# Altium integrated library Res-SMD_V2.IntLib: 2369 symbols (part 3 of 18)
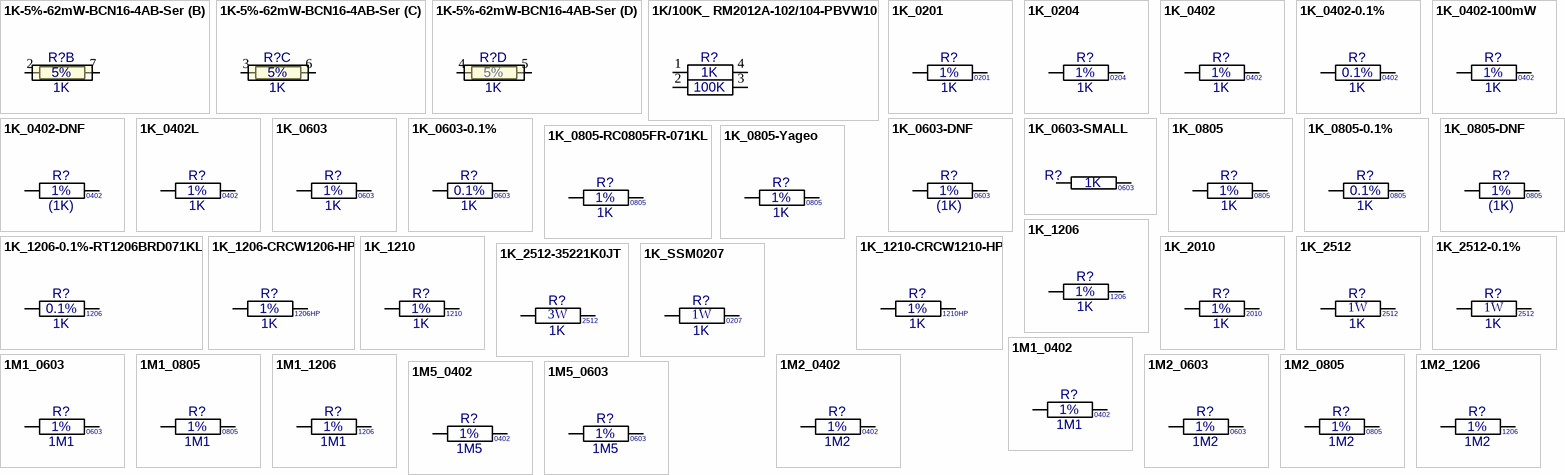
[diagram p61: symbols 1K-5%-62mW-BCN16-4AB-Ser to 1M5_0603]

## 1K_2512-35221K0JT
designator R?, comment value 1K  Watt: 3W  Text1: 2512  (hidden comment: 35221K0JT)
Resistor Chip Thick Film; Manufacturer: TE Connectivity; Tol: 5%; Part Number: 35221K0JT; Package: RESC2512X71N; EDM-PN: *; Text2: *; Reutech PN: *; SAAB PN: *; DCE Part No: *
footprint RESC2512X71N (Chip Resistor, 2512, 2-Leads, Body 6.3x3.2mm, IPC Medium Density)
pins: 1, 2

## 1K_SSM0207
designator R?, comment value 1K  Watt: 1W  Text1: 0207  (hidden comment: SMM02070C1001FBP00)
Resistor Melf Pulse Withstanding Thin Film; Manufacturer: Vishay; Tol: 1%; Part Number: SMM02070C1001FBP00; Package: RES-SMM0207; EDM-PN: *; Text2: *; Reutech PN: *; SAAB PN: *; DCE Part No: *
footprint RES-SMM0207 (Resistor SMM0207 5.8x2.2mm)
pins: 1, 2

## 1M1_0402
designator R?, comment value 1M1  Tol: 1%  Text1: 0402  (hidden comment: 1M1_R0402_1%)
Resistor Chip SMD; Manufacturer: Various; Part Number: 1M1 0402 1%; Watt: 63mW; Package: RESC0402X40N; EDM-PN: *; Text2: *; Reutech PN: *; SAAB PN: *; DCE Part No: *
footprint RESC0402X40N (Chip Resistor, 0402, 2-Leads, Body 1.1x0.5mm, IPC Medium Density)
pins: 1, 2

## 1M1_0603
designator R?, comment value 1M1  Tol: 1%  Text1: 0603  (hidden comment: 1M1_R0603_1%)
Resistor Chip SMD; Manufacturer: Various; Part Number: 1M1 0603 1%; Watt: 100mW; Package: RESC0603X60N; EDM-PN: *; Text2: *; Reutech PN: *; SAAB PN: *; DCE Part No: *
footprint RESC0603X60N (Chip Resistor, 0603, 2-Leads, Body 1.6x0.8mm, IPC Medium Density)
pins: 1, 2

## 1M1_0805
designator R?, comment value 1M1  Tol: 1%  Text1: 0805  (hidden comment: 1M1_R0805_1%)
Resistor Chip SMD; Manufacturer: Various; Part Number: 1M1 0805 1%; Watt: 125mW; Package: RESC0805X65N; EDM-PN: *; Text2: *; Reutech PN: *; SAAB PN: *; DCE Part No: *
footprint RESC0805X65N (Chip Resistor, 0805, 2-Leads, Body 2.0x1.3mm, IPC Medium Density)
pins: 1, 2

## 1M1_1206
designator R?, comment value 1M1  Tol: 1%  Text1: 1206  (hidden comment: 1M1_R1206_1%)
Resistor Chip SMD; Manufacturer: Various; Part Number: 1M1 1206 1%; Watt: 250mW; Package: RESC1206X71N; EDM-PN: *; Text2: *; Reutech PN: *; SAAB PN: *; DCE Part No: *
footprint RESC1206X71N (Chip Resistor, 1206, 2-Leads, Body 3.2x1.6mm, IPC Medium Density)
pins: 1, 2

## 1M2_0402
designator R?, comment value 1M2  Tol: 1%  Text1: 0402  (hidden comment: 1M2_R0402_1%)
Resistor Chip SMD; Manufacturer: Various; Part Number: 1M2 0402 1%; Watt: 63mW; Package: RESC0402X40N; EDM-PN: *; Text2: *; Reutech PN: *; SAAB PN: *; DCE Part No: *
footprint RESC0402X40N (Chip Resistor, 0402, 2-Leads, Body 1.1x0.5mm, IPC Medium Density)
pins: 1, 2

## 1M2_0603
designator R?, comment value 1M2  Tol: 1%  Text1: 0603  (hidden comment: 1M2_R0603_1%)
Resistor Chip SMD; Manufacturer: Various; Part Number: 1M2 0603 1%; Watt: 100mW; Package: RESC0603X60N; EDM-PN: *; Text2: *; Reutech PN: *; SAAB PN: *; DCE Part No: *
footprint RESC0603X60N (Chip Resistor, 0603, 2-Leads, Body 1.6x0.8mm, IPC Medium Density)
pins: 1, 2

## 1M2_0805
designator R?, comment value 1M2  Tol: 1%  Text1: 0805  (hidden comment: 1M2_R0805_1%)
Resistor Chip SMD; Manufacturer: Various; Part Number: 1M2 0805 1%; Watt: 125mW; Package: RESC0805X65N; EDM-PN: *; Text2: *; Reutech PN: *; SAAB PN: *; DCE Part No: *
footprint RESC0805X65N (Chip Resistor, 0805, 2-Leads, Body 2.0x1.3mm, IPC Medium Density)
pins: 1, 2

## 1M2_1206
designator R?, comment value 1M2  Tol: 1%  Text1: 1206  (hidden comment: 1M2_R1206_1%)
Resistor Chip SMD; Manufacturer: Various; Part Number: 1M2 1206 1%; Watt: 250mW; Package: RESC1206X71N; EDM-PN: *; Text2: *; Reutech PN: *; SAAB PN: *; DCE Part No: *
footprint RESC1206X71N (Chip Resistor, 1206, 2-Leads, Body 3.2x1.6mm, IPC Medium Density)
pins: 1, 2

## 1M5_0402
designator R?, comment value 1M5  Tol: 1%  Text1: 0402  (hidden comment: 1M5_R0402_1%)
Resistor Chip SMD; Manufacturer: Various; Part Number: 1M5 0402 1%; Watt: 63mW; Package: RESC0402X40N; EDM-PN: *; Text2: *; Reutech PN: *; SAAB PN: *; DCE Part No: *
footprint RESC0402X40N (Chip Resistor, 0402, 2-Leads, Body 1.1x0.5mm, IPC Medium Density)
pins: 1, 2

## 1M5_0603
designator R?, comment value 1M5  Tol: 1%  Text1: 0603  (hidden comment: 1M5_R0603_1%)
Resistor Chip SMD; Manufacturer: Various; Part Number: 1M5 0603 1%; Watt: 100mW; Package: RESC0603X60N; EDM-PN: *; Text2: *; Reutech PN: *; SAAB PN: *; DCE Part No: *
footprint RESC0603X60N (Chip Resistor, 0603, 2-Leads, Body 1.6x0.8mm, IPC Medium Density)
pins: 1, 2

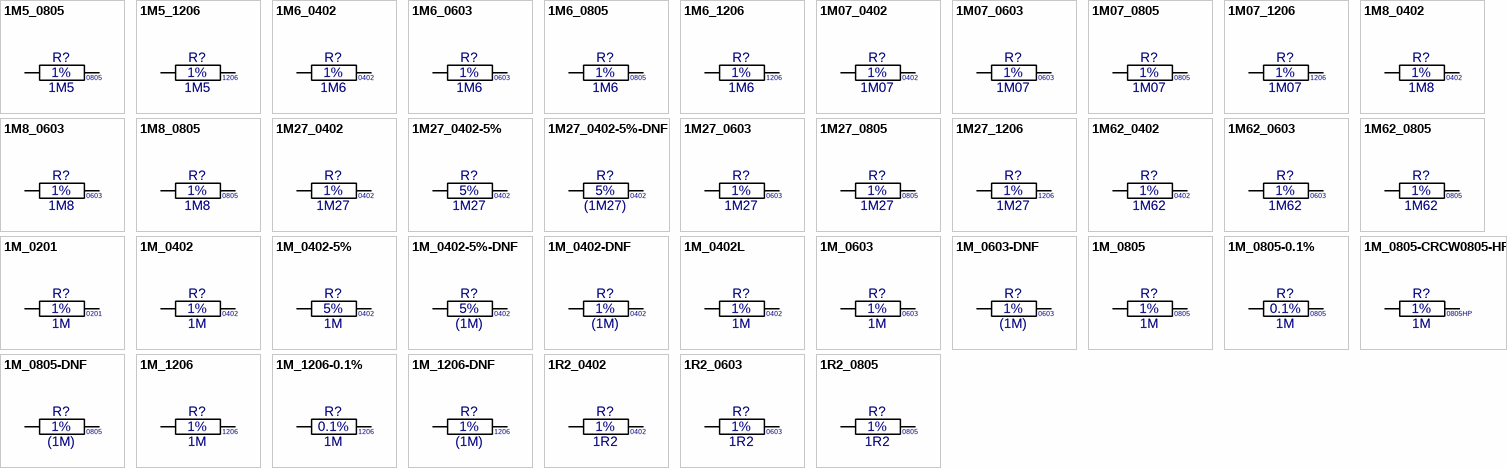
[diagram p7: symbols 1M5_0805 to 1R2_0805]

## 1M5_0805
designator R?, comment value 1M5  Tol: 1%  Text1: 0805  (hidden comment: 1M5_R0805_1%)
Resistor Chip SMD; Manufacturer: Various; Part Number: 1M5 0805 1%; Watt: 125mW; Package: RESC0805X65N; EDM-PN: *; Text2: *; Reutech PN: *; SAAB PN: *; DCE Part No: *
footprint RESC0805X65N (Chip Resistor, 0805, 2-Leads, Body 2.0x1.3mm, IPC Medium Density)
pins: 1, 2

## 1M5_1206
designator R?, comment value 1M5  Tol: 1%  Text1: 1206  (hidden comment: 1M5_R1206_1%)
Resistor Chip SMD; Manufacturer: Various; Part Number: 1M5 1206 1%; Watt: 250mW; Package: RESC1206X71N; EDM-PN: *; Text2: *; Reutech PN: *; SAAB PN: *; DCE Part No: *
footprint RESC1206X71N (Chip Resistor, 1206, 2-Leads, Body 3.2x1.6mm, IPC Medium Density)
pins: 1, 2

## 1M6_0402
designator R?, comment value 1M6  Tol: 1%  Text1: 0402  (hidden comment: 1M6_R0402_1%)
Resistor Chip SMD; Manufacturer: Various; Part Number: 1M6 0402 1%; Watt: 63mW; Package: RESC0402X40N; EDM-PN: *; Text2: *; Reutech PN: *; SAAB PN: *; DCE Part No: *
footprint RESC0402X40N (Chip Resistor, 0402, 2-Leads, Body 1.1x0.5mm, IPC Medium Density)
pins: 1, 2

## 1M6_0603
designator R?, comment value 1M6  Tol: 1%  Text1: 0603  (hidden comment: 1M6_R0603_1%)
Resistor Chip SMD; Manufacturer: Various; Part Number: 1M6 0603 1%; Watt: 100mW; Package: RESC0603X60N; EDM-PN: *; Text2: *; Reutech PN: *; SAAB PN: *; DCE Part No: *
footprint RESC0603X60N (Chip Resistor, 0603, 2-Leads, Body 1.6x0.8mm, IPC Medium Density)
pins: 1, 2

## 1M6_0805
designator R?, comment value 1M6  Tol: 1%  Text1: 0805  (hidden comment: 1M6_R0805_1%)
Resistor Chip SMD; Manufacturer: Various; Part Number: 1M6 0805 1%; Watt: 125mW; Package: RESC0805X65N; EDM-PN: *; Text2: *; Reutech PN: *; SAAB PN: *; DCE Part No: *
footprint RESC0805X65N (Chip Resistor, 0805, 2-Leads, Body 2.0x1.3mm, IPC Medium Density)
pins: 1, 2

## 1M6_1206
designator R?, comment value 1M6  Tol: 1%  Text1: 1206  (hidden comment: 1M6_R1206_1%)
Resistor Chip SMD; Manufacturer: Various; Part Number: 1M6 1206 1%; Watt: 250mW; Package: RESC1206X71N; EDM-PN: *; Text2: *; Reutech PN: *; SAAB PN: *; DCE Part No: *
footprint RESC1206X71N (Chip Resistor, 1206, 2-Leads, Body 3.2x1.6mm, IPC Medium Density)
pins: 1, 2

## 1M07_0402
designator R?, comment value 1M07  Tol: 1%  Text1: 0402  (hidden comment: 1M07_R0402_1%)
Resistor Chip SMD; Manufacturer: Various; Part Number: 1M07 0402 1%; Watt: 63mW; Package: RESC0402X40N; EDM-PN: *; Text2: *; Reutech PN: *; SAAB PN: *; DCE Part No: *
footprint RESC0402X40N (Chip Resistor, 0402, 2-Leads, Body 1.1x0.5mm, IPC Medium Density)
pins: 1, 2

## 1M07_0603
designator R?, comment value 1M07  Tol: 1%  Text1: 0603  (hidden comment: 1M07_R0603_1%)
Resistor Chip SMD; Manufacturer: Various; Part Number: 1M07 0603 1%; Watt: 100mW; Package: RESC0603X60N; EDM-PN: *; Text2: *; Reutech PN: *; SAAB PN: *; DCE Part No: *
footprint RESC0603X60N (Chip Resistor, 0603, 2-Leads, Body 1.6x0.8mm, IPC Medium Density)
pins: 1, 2

## 1M07_0805
designator R?, comment value 1M07  Tol: 1%  Text1: 0805  (hidden comment: 1M07_R0805_1%)
Resistor Chip SMD; Manufacturer: Various; Part Number: 1M07 0805 1%; Watt: 125mW; Package: RESC0805X65N; EDM-PN: *; Text2: *; Reutech PN: *; SAAB PN: *; DCE Part No: *
footprint RESC0805X65N (Chip Resistor, 0805, 2-Leads, Body 2.0x1.3mm, IPC Medium Density)
pins: 1, 2

## 1M07_1206
designator R?, comment value 1M07  Tol: 1%  Text1: 1206  (hidden comment: 1M07_R1206_1%)
Resistor Chip SMD; Manufacturer: Various; Part Number: 1M07 1206 1%; Watt: 250mW; Package: RESC1206X71N; EDM-PN: *; Text2: *; Reutech PN: *; SAAB PN: *; DCE Part No: *
footprint RESC1206X71N (Chip Resistor, 1206, 2-Leads, Body 3.2x1.6mm, IPC Medium Density)
pins: 1, 2

## 1M8_0402
designator R?, comment value 1M8  Tol: 1%  Text1: 0402  (hidden comment: 1M8_R0402_1%)
Resistor Chip SMD; Manufacturer: Various; Part Number: 1M8 0402 1%; Watt: 63mW; Package: RESC0402X40N; EDM-PN: *; Text2: *; Reutech PN: *; SAAB PN: *; DCE Part No: *
footprint RESC0402X40N (Chip Resistor, 0402, 2-Leads, Body 1.1x0.5mm, IPC Medium Density)
pins: 1, 2

## 1M8_0603
designator R?, comment value 1M8  Tol: 1%  Text1: 0603  (hidden comment: 1M8_R0603_1%)
Resistor Chip SMD; Manufacturer: Various; Part Number: 1M8 0603 1%; Watt: 100mW; EDM-PN: RES873; Package: RESC0603X60N; Text2: *; Reutech PN: *; SAAB PN: *; DCE Part No: *
footprint RESC0603X60N (Chip Resistor, 0603, 2-Leads, Body 1.6x0.8mm, IPC Medium Density)
pins: 1, 2

## 1M8_0805
designator R?, comment value 1M8  Tol: 1%  Text1: 0805  (hidden comment: 1M8_R0805_1%)
Resistor Chip SMD; Manufacturer: Various; Part Number: 1M8 0805 1%; Watt: 125mW; Package: RESC0805X65N; EDM-PN: *; Text2: *; Reutech PN: *; SAAB PN: *; DCE Part No: *
footprint RESC0805X65N (Chip Resistor, 0805, 2-Leads, Body 2.0x1.3mm, IPC Medium Density)
pins: 1, 2

## 1M27_0402
designator R?, comment value 1M27  Tol: 1%  Text1: 0402  (hidden comment: 1M27_R0402_1%)
Resistor Chip SMD; Manufacturer: Various; Part Number: 1M27 0402 1%; Watt: 63mW; Package: RESC0402X40N; EDM-PN: *; Text2: *; Reutech PN: *; SAAB PN: *; DCE Part No: *
footprint RESC0402X40N (Chip Resistor, 0402, 2-Leads, Body 1.1x0.5mm, IPC Medium Density)
pins: 1, 2

## 1M27_0402-5%
designator R?, comment value 1M27  Tol: 5%  Text1: 0402  (hidden comment: 1M27_R0402_5%)
Resistor Chip SMD; Manufacturer: Various; Part Number: 1M27 0402 5%; Watt: 63mW; Package: RESC0402X40N; EDM-PN: *; Text2: *; Reutech PN: *; SAAB PN: *; DCE Part No: *
footprint RESC0402X40N (Chip Resistor, 0402, 2-Leads, Body 1.1x0.5mm, IPC Medium Density)
pins: 1, 2

## 1M27_0402-5%-DNF
designator R?, comment value (1M27)  Tol: 5%  Text1: 0402  (hidden comment: 1M27_R0402_5%)
Resistor Chip SMD - Do not Fit; Manufacturer: Various; Part Number: DNF - 1M27 0402 5%; Watt: 63mW; Package: RESC0402X40N; EDM-PN: *; Text2: *; Reutech PN: *; SAAB PN: *; DCE Part No: *
footprint RESC0402X40N (Chip Resistor, 0402, 2-Leads, Body 1.1x0.5mm, IPC Medium Density)
pins: 1, 2

## 1M27_0603
designator R?, comment value 1M27  Tol: 1%  Text1: 0603  (hidden comment: 1M27_R0603_1%)
Resistor Chip SMD; Manufacturer: Various; Part Number: 1M27 0603 1%; Watt: 100mW; Package: RESC0603X60N; EDM-PN: *; Text2: *; Reutech PN: *; SAAB PN: *; DCE Part No: *
footprint RESC0603X60N (Chip Resistor, 0603, 2-Leads, Body 1.6x0.8mm, IPC Medium Density)
pins: 1, 2

## 1M27_0805
designator R?, comment value 1M27  Tol: 1%  Text1: 0805  (hidden comment: 1M27_R0805_1%)
Resistor Chip SMD; Manufacturer: Various; Part Number: 1M27 0805 1%; Watt: 125mW; Package: RESC0805X65N; EDM-PN: *; Text2: *; Reutech PN: *; SAAB PN: *; DCE Part No: *
footprint RESC0805X65N (Chip Resistor, 0805, 2-Leads, Body 2.0x1.3mm, IPC Medium Density)
pins: 1, 2

## 1M27_1206
designator R?, comment value 1M27  Tol: 1%  Text1: 1206  (hidden comment: 1M27_R1206_1%)
Resistor Chip SMD; Manufacturer: Various; Part Number: 1M27 1206 1%; Watt: 250mW; Package: RESC1206X71N; EDM-PN: *; Text2: *; Reutech PN: *; SAAB PN: *; DCE Part No: *
footprint RESC1206X71N (Chip Resistor, 1206, 2-Leads, Body 3.2x1.6mm, IPC Medium Density)
pins: 1, 2

## 1M62_0402
designator R?, comment value 1M62  Tol: 1%  Text1: 0402  (hidden comment: 1M62_R0402_1%)
Resistor Chip SMD; Manufacturer: Various; Part Number: 1M62 0402 1%; Watt: 63mW; Package: RESC0402X40N; EDM-PN: *; Text2: *; Reutech PN: *; SAAB PN: *; DCE Part No: *
footprint RESC0402X40N (Chip Resistor, 0402, 2-Leads, Body 1.1x0.5mm, IPC Medium Density)
pins: 1, 2

## 1M62_0603
designator R?, comment value 1M62  Tol: 1%  Text1: 0603  (hidden comment: 1M62_R0603_1%)
Resistor Chip SMD; Manufacturer: Various; Part Number: 1M62 0603 1%; Watt: 100mW; EDM-PN: RES1522; Package: RESC0603X60N; Text2: *; Reutech PN: *; SAAB PN: *; DCE Part No: *
footprint RESC0603X60N (Chip Resistor, 0603, 2-Leads, Body 1.6x0.8mm, IPC Medium Density)
pins: 1, 2

## 1M62_0805
designator R?, comment value 1M62  Tol: 1%  Text1: 0805  (hidden comment: 1M62_R0805_1%)
Resistor Chip SMD; Manufacturer: Various; Part Number: 1M62 0805 1%; Watt: 125mW; Package: RESC0805X65N; EDM-PN: *; Text2: *; Reutech PN: *; SAAB PN: *; DCE Part No: *
footprint RESC0805X65N (Chip Resistor, 0805, 2-Leads, Body 2.0x1.3mm, IPC Medium Density)
pins: 1, 2

## 1M_0201
designator R?, comment value 1M  Tol: 1%  Text1: 0201  (hidden comment: 1M_R0201_1%)
Resistor Chip SMD; Manufacturer: Various; Part Number: 1M 0201 1%; Watt: 31mW; Package: RESC0201X33N; EDM-PN: *; Text2: *; Reutech PN: *; SAAB PN: *; DCE Part No: *
footprint RESC0201X33N (Chip Resistor, 0201, 2-Leads, Body 0.6x0.3mm, IPC Medium Density)
pins: 1, 2

## 1M_0402
designator R?, comment value 1M  Tol: 1%  Text1: 0402  (hidden comment: 1M_R0402_1%)
Resistor Chip SMD; Manufacturer: Various; Part Number: 1M 0402 1%; Watt: 63mW; EDM-PN: RES580; Package: RESC0402X40N; Text2: *; Reutech PN: *; SAAB PN: *; DCE Part No: *
footprint RESC0402X40N (Chip Resistor, 0402, 2-Leads, Body 1.1x0.5mm, IPC Medium Density)
pins: 1, 2

## 1M_0402-5%
designator R?, comment value 1M  Tol: 5%  Text1: 0402  (hidden comment: 1M_R0402_5%)
Resistor Chip SMD; Manufacturer: Various; Part Number: 1M 0402 5%; Watt: 63mW; Package: RESC0402X40N; EDM-PN: *; Text2: *; Reutech PN: *; SAAB PN: *; DCE Part No: *
footprint RESC0402X40N (Chip Resistor, 0402, 2-Leads, Body 1.1x0.5mm, IPC Medium Density)
pins: 1, 2

## 1M_0402-5%-DNF
designator R?, comment value (1M)  Tol: 5%  Text1: 0402  (hidden comment: 1M_R0402_5%)
Resistor Chip SMD - Do not Fit; Manufacturer: Various; Part Number: DNF - 1M 0402 5%; Watt: 63mW; Package: RESC0402X40N; EDM-PN: *; Text2: *; Reutech PN: *; SAAB PN: *; DCE Part No: *
footprint RESC0402X40N (Chip Resistor, 0402, 2-Leads, Body 1.1x0.5mm, IPC Medium Density)
pins: 1, 2

## 1M_0402-DNF
designator R?, comment value (1M)  Tol: 1%  Text1: 0402  (hidden comment: 1M_R0402_1%-DNF)
Resistor Chip SMD - Do not Fit; Manufacturer: Various; Part Number: DNF - 1M 0402 1%; Watt: 63mW; Package: RESC0402X40N; EDM-PN: *; Text2: *; Reutech PN: *; SAAB PN: *; DCE Part No: *
footprint RESC0402X40N (Chip Resistor, 0402, 2-Leads, Body 1.1x0.5mm, IPC Medium Density)
pins: 1, 2

## 1M_0402L
designator R?, comment value 1M  Tol: 1%  Text1: 0402  (hidden comment: 1M_R0402_1%)
Resistor Chip SMD; Manufacturer: Various; Part Number: 1M 0402 1%; Watt: 63mW; EDM-PN: RES580; Package: RESC0402X40L; Text2: *; Reutech PN: *; SAAB PN: *; DCE Part No: *
footprint RESC0402X40L (Chip Resistor, 0402, 2-Leads, Body 1.1x0.5mm, IPC High Density)
pins: 1, 2

## 1M_0603
designator R?, comment value 1M  Tol: 1%  Text1: 0603  (hidden comment: 1M_R0603_1%)
Resistor Chip SMD; Manufacturer: Various; Part Number: 1M 0603 1%; Watt: 100mW; EDM-PN: RES180; Package: RESC0603X60N; Text2: *; Reutech PN: 5905-93-1004; SAAB PN: *; DCE Part No: *
footprint RESC0603X60N (Chip Resistor, 0603, 2-Leads, Body 1.6x0.8mm, IPC Medium Density)
pins: 1, 2

## 1M_0603-DNF
designator R?, comment value (1M)  Tol: 1%  Text1: 0603  (hidden comment: 1M_R0603_1%)
Resistor Chip SMD - Do not Fit; Manufacturer: Various; Part Number: DNF - 1M 0603 1%; Watt: 100mW; EDM-PN: RES180; Package: RESC0603X60N; Text2: *; Reutech PN: 5905-93-1004; SAAB PN: *; DCE Part No: *
footprint RESC0603X60N (Chip Resistor, 0603, 2-Leads, Body 1.6x0.8mm, IPC Medium Density)
pins: 1, 2

## 1M_0805
designator R?, comment value 1M  Tol: 1%  Text1: 0805  (hidden comment: 1M_R0805_1%)
Resistor Chip SMD; Manufacturer: Various; Part Number: 1M 0805 1%; Watt: 125mW; EDM-PN: RES421; Package: RESC0805X65N; Text2: *; Reutech PN: *; SAAB PN: *; DCE Part No: *
footprint RESC0805X65N (Chip Resistor, 0805, 2-Leads, Body 2.0x1.3mm, IPC Medium Density)
pins: 1, 2

## 1M_0805-0.1%
designator R?, comment value 1M  Tol: 0.1%  Text1: 0805  (hidden comment: 1M_R0805_0.1%)
Resistor Chip SMD; Manufacturer: Various; Part Number: 1M 0805 0.1%; Watt: 125mW; Package: RESC0805X65N; EDM-PN: *; Text2: *; Reutech PN: *; SAAB PN: *; DCE Part No: *
footprint RESC0805X65N (Chip Resistor, 0805, 2-Leads, Body 2.0x1.3mm, IPC Medium Density)
pins: 1, 2

## 1M_0805-CRCW0805-HP
designator R?, comment value 1M  Tol: 1%  Text1: 0805HP  (hidden comment: CRCW08051M00FKEAHP)
Resistor Pulse Withstanding Thick Film; Manufacturer: Vishay; Watt: 500mW; Part Number: CRCW08051M00FKEAHP; Package: CRCW0805-HP; EDM-PN: *; Text2: *; Reutech PN: *; SAAB PN: *; DCE Part No: *
footprint CRCW0805-HP (CRCW0805 HP 2.0x1.3mm, IPC Medium Density)
pins: 1, 2

## 1M_0805-DNF
designator R?, comment value (1M)  Tol: 1%  Text1: 0805  (hidden comment: 1M_R0805_1%)
Resistor Chip SMD - Do not Fit; Manufacturer: Various; Part Number: DNF - 1M 0805 1%; Watt: 125mW; EDM-PN: RES421; Package: RESC0805X65N; Text2: *; Reutech PN: *; SAAB PN: *; DCE Part No: *
footprint RESC0805X65N (Chip Resistor, 0805, 2-Leads, Body 2.0x1.3mm, IPC Medium Density)
pins: 1, 2

## 1M_1206
designator R?, comment value 1M  Tol: 1%  Text1: 1206  (hidden comment: 1M_R1206_1%)
Resistor Chip SMD; Manufacturer: Various; Part Number: 1M 1206 1%; Watt: 250mW; Package: RESC1206X71N; EDM-PN: *; Text2: *; Reutech PN: 5905-97-1004; SAAB PN: *; DCE Part No: *
footprint RESC1206X71N (Chip Resistor, 1206, 2-Leads, Body 3.2x1.6mm, IPC Medium Density)
pins: 1, 2

## 1M_1206-0.1%
designator R?, comment value 1M  Tol: 0.1%  Text1: 1206  (hidden comment: 1M_R1206_0.1%)
Resistor Chip SMD; Manufacturer: Various; Part Number: 1M 1206 0.1%; Watt: 250mW; Package: RESC1206X71N; EDM-PN: *; Text2: *; Reutech PN: *; SAAB PN: *; DCE Part No: *
footprint RESC1206X71N (Chip Resistor, 1206, 2-Leads, Body 3.2x1.6mm, IPC Medium Density)
pins: 1, 2

## 1M_1206-DNF
designator R?, comment value (1M)  Tol: 1%  Text1: 1206  (hidden comment: 1M_R1206_1%-DNF)
Resistor Chip SMD - Do not Fit; Manufacturer: Various; Part Number: DNF - 1M 1206 1%; Watt: 250mW; Package: RESC1206X71N; EDM-PN: *; Text2: *; Reutech PN: 5905-97-1004; SAAB PN: *; DCE Part No: *
footprint RESC1206X71N (Chip Resistor, 1206, 2-Leads, Body 3.2x1.6mm, IPC Medium Density)
pins: 1, 2

## 1R2_0402
designator R?, comment value 1R2  Tol: 1%  Text1: 0402  (hidden comment: 1R2_R0402_1%)
Resistor Chip SMD; Manufacturer: Various; Part Number: 1R2 0402 1%; Watt: 63mW; Package: RESC0402X40N; EDM-PN: *; Text2: *; Reutech PN: *; SAAB PN: *; DCE Part No: *
footprint RESC0402X40N (Chip Resistor, 0402, 2-Leads, Body 1.1x0.5mm, IPC Medium Density)
pins: 1, 2

## 1R2_0603
designator R?, comment value 1R2  Tol: 1%  Text1: 0603  (hidden comment: 1R2_R0603_1%)
Resistor Chip SMD; Manufacturer: Various; Part Number: 1R2 0603 1%; Watt: 100mW; Package: RESC0603X60N; EDM-PN: *; Text2: *; Reutech PN: *; SAAB PN: *; DCE Part No: *
footprint RESC0603X60N (Chip Resistor, 0603, 2-Leads, Body 1.6x0.8mm, IPC Medium Density)
pins: 1, 2

## 1R2_0805
designator R?, comment value 1R2  Tol: 1%  Text1: 0805  (hidden comment: 1R2_R0805_1%)
Resistor Chip SMD; Manufacturer: Various; Part Number: 1R2 0805 1%; Watt: 125mW; Package: RESC0805X65N; EDM-PN: *; Text2: *; Reutech PN: *; SAAB PN: *; DCE Part No: *
footprint RESC0805X65N (Chip Resistor, 0805, 2-Leads, Body 2.0x1.3mm, IPC Medium Density)
pins: 1, 2

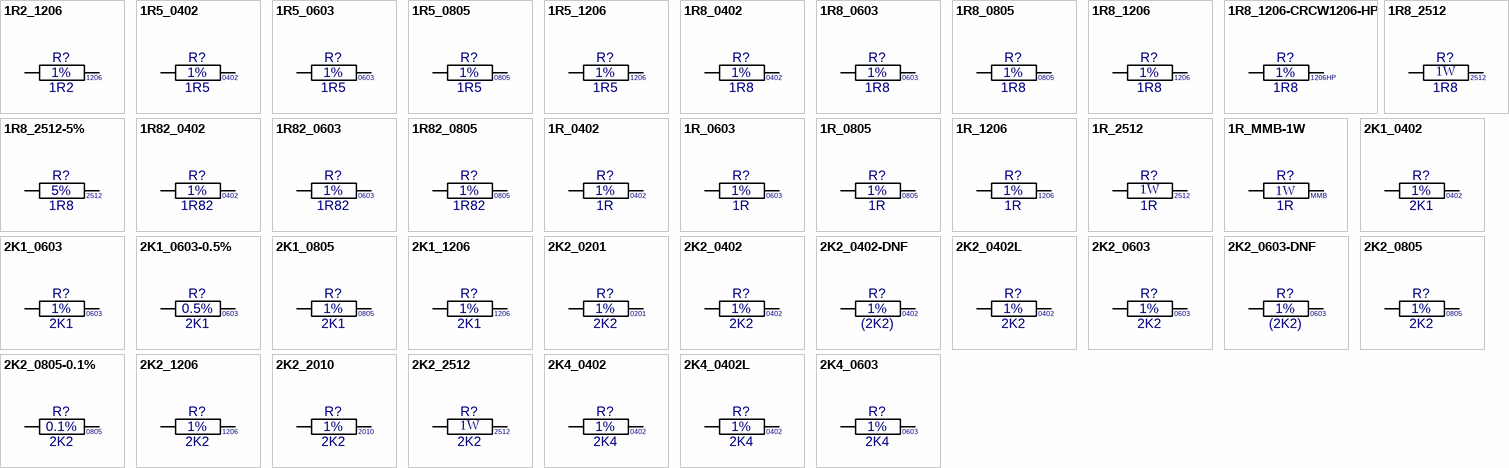
[diagram p8: symbols 1R2_1206 to 2K4_0603]

## 1R2_1206
designator R?, comment value 1R2  Tol: 1%  Text1: 1206  (hidden comment: 1R2_R1206_1%)
Resistor Chip SMD; Manufacturer: Various; Part Number: 1R2 1206 1%; Watt: 250mW; Package: RESC1206X71N; EDM-PN: *; Text2: *; Reutech PN: *; SAAB PN: *; DCE Part No: *
footprint RESC1206X71N (Chip Resistor, 1206, 2-Leads, Body 3.2x1.6mm, IPC Medium Density)
pins: 1, 2

## 1R5_0402
designator R?, comment value 1R5  Tol: 1%  Text1: 0402  (hidden comment: 1R5_R0402_1%)
Resistor Chip SMD; Manufacturer: Various; Part Number: 1R5 0402 1%; Watt: 63mW; Package: RESC0402X40N; EDM-PN: *; Text2: *; Reutech PN: *; SAAB PN: *; DCE Part No: *
footprint RESC0402X40N (Chip Resistor, 0402, 2-Leads, Body 1.1x0.5mm, IPC Medium Density)
pins: 1, 2

## 1R5_0603
designator R?, comment value 1R5  Tol: 1%  Text1: 0603  (hidden comment: 1R5_R0603_1%)
Resistor Chip SMD; Manufacturer: Various; Part Number: 1R5 0603 1%; Watt: 100mW; EDM-PN: RES1287; Package: RESC0603X60N; Text2: *; Reutech PN: *; SAAB PN: *; DCE Part No: *
footprint RESC0603X60N (Chip Resistor, 0603, 2-Leads, Body 1.6x0.8mm, IPC Medium Density)
pins: 1, 2

## 1R5_0805
designator R?, comment value 1R5  Tol: 1%  Text1: 0805  (hidden comment: 1R5_R0805_1%)
Resistor Chip SMD; Manufacturer: Various; Part Number: 1R5 0805 1%; Watt: 125mW; Package: RESC0805X65N; EDM-PN: *; Text2: *; Reutech PN: *; SAAB PN: *; DCE Part No: *
footprint RESC0805X65N (Chip Resistor, 0805, 2-Leads, Body 2.0x1.3mm, IPC Medium Density)
pins: 1, 2

## 1R5_1206
designator R?, comment value 1R5  Tol: 1%  Text1: 1206  (hidden comment: 1R5_R1206_1%)
Resistor Chip SMD; Manufacturer: Various; Part Number: 1R5 1206 1%; Watt: 250mW; Package: RESC1206X71N; EDM-PN: *; Text2: *; Reutech PN: *; SAAB PN: *; DCE Part No: *
footprint RESC1206X71N (Chip Resistor, 1206, 2-Leads, Body 3.2x1.6mm, IPC Medium Density)
pins: 1, 2

## 1R8_0402
designator R?, comment value 1R8  Tol: 1%  Text1: 0402  (hidden comment: 1R8_R0402_1%)
Resistor Chip SMD; Manufacturer: Various; Part Number: 1R8 0402 1%; Watt: 63mW; Package: RESC0402X40N; EDM-PN: *; Text2: *; Reutech PN: *; SAAB PN: *; DCE Part No: *
footprint RESC0402X40N (Chip Resistor, 0402, 2-Leads, Body 1.1x0.5mm, IPC Medium Density)
pins: 1, 2

## 1R8_0603
designator R?, comment value 1R8  Tol: 1%  Text1: 0603  (hidden comment: 1R8_R0603_1%)
Resistor Chip SMD; Manufacturer: Various; Part Number: 1R8 0603 1%; Watt: 100mW; Package: RESC0603X60N; EDM-PN: *; Text2: *; Reutech PN: *; SAAB PN: *; DCE Part No: *
footprint RESC0603X60N (Chip Resistor, 0603, 2-Leads, Body 1.6x0.8mm, IPC Medium Density)
pins: 1, 2

## 1R8_0805
designator R?, comment value 1R8  Tol: 1%  Text1: 0805  (hidden comment: 1R8_R0805_1%)
Resistor Chip SMD; Manufacturer: Various; Part Number: 1R8 0805 1%; Watt: 125mW; Package: RESC0805X65N; EDM-PN: *; Text2: *; Reutech PN: *; SAAB PN: *; DCE Part No: *
footprint RESC0805X65N (Chip Resistor, 0805, 2-Leads, Body 2.0x1.3mm, IPC Medium Density)
pins: 1, 2

## 1R8_1206
designator R?, comment value 1R8  Tol: 1%  Text1: 1206  (hidden comment: 1R8_R1206_1%)
Resistor Chip SMD; Manufacturer: Various; Part Number: 1R8 1206 1%; Watt: 250mW; Package: RESC1206X71N; EDM-PN: *; Text2: *; Reutech PN: *; SAAB PN: *; DCE Part No: *
footprint RESC1206X71N (Chip Resistor, 1206, 2-Leads, Body 3.2x1.6mm, IPC Medium Density)
pins: 1, 2

## 1R8_1206-CRCW1206-HP
designator R?, comment value 1R8  Tol: 1%  Text1: 1206HP  (hidden comment: 1R8_R1206_1%-CRCW1206-HP)
Resistor Chip Pulse Proof High Power Thick Film; Manufacturer: Vishay; Part Number: CRCW12061R80FKEAHP; Watt: 500mW; Package: CRCW1206-HP; EDM-PN: *; Text2: *; Reutech PN: *; SAAB PN: *; DCE Part No: *
footprint CRCW1206-HP (CCRCW1206-HP 3.2x1.6mm, IPC Medium Density)
pins: 1, 2

## 1R8_2512
designator R?, comment value 1R8  Watt: 1W  Text1: 2512  (hidden comment: 1R8_R2512)
Resistor Chip SMD; Manufacturer: Various; Part Number: 1R8 2512 1%; Tol: 1%; Package: RESC2512X71N; EDM-PN: *; Text2: *; Reutech PN: *; SAAB PN: *; DCE Part No: *
footprint RESC2512X71N (Chip Resistor, 2512, 2-Leads, Body 6.3x3.2mm, IPC Medium Density)
pins: 1, 2

## 1R8_2512-5%
designator R?, comment value 1R8  Tol: 5%  Text1: 2512  (hidden comment: 1R8_R2512_5%)
Resistor Chip SMD; Manufacturer: Various; Part Number: 1R8 2512 5%; Watt: 1W; Package: RESC2512X71N; EDM-PN: *; Text2: *; Reutech PN: *; SAAB PN: *; DCE Part No: *
footprint RESC2512X71N (Chip Resistor, 2512, 2-Leads, Body 6.3x3.2mm, IPC Medium Density)
pins: 1, 2

## 1R82_0402
designator R?, comment value 1R82  Tol: 1%  Text1: 0402  (hidden comment: 1R82_R0402_1%)
Resistor Chip SMD; Manufacturer: Various; Part Number: 1R82 0402 1%; Watt: 63mW; Package: RESC0402X40N; EDM-PN: *; Text2: *; Reutech PN: *; SAAB PN: *; DCE Part No: *
footprint RESC0402X40N (Chip Resistor, 0402, 2-Leads, Body 1.1x0.5mm, IPC Medium Density)
pins: 1, 2

## 1R82_0603
designator R?, comment value 1R82  Tol: 1%  Text1: 0603  (hidden comment: 1R82_R0603_1%)
Resistor Chip SMD; Manufacturer: Various; Part Number: 1R82 0603 1%; Watt: 100mW; Package: RESC0603X60N; EDM-PN: *; Text2: *; Reutech PN: *; SAAB PN: *; DCE Part No: *
footprint RESC0603X60N (Chip Resistor, 0603, 2-Leads, Body 1.6x0.8mm, IPC Medium Density)
pins: 1, 2

## 1R82_0805
designator R?, comment value 1R82  Tol: 1%  Text1: 0805  (hidden comment: 1R82_R0805_1%)
Resistor Chip SMD; Manufacturer: Various; Part Number: 1R82 0805 1%; Watt: 125mW; Package: RESC0805X65N; EDM-PN: *; Text2: *; Reutech PN: *; SAAB PN: *; DCE Part No: *
footprint RESC0805X65N (Chip Resistor, 0805, 2-Leads, Body 2.0x1.3mm, IPC Medium Density)
pins: 1, 2

## 1R_0402
designator R?, comment value 1R  Tol: 1%  Text1: 0402  (hidden comment: 1R_R0402_1%)
Resistor Chip SMD; Manufacturer: Various; Part Number: 1R 0402 1%; Watt: 63mW; Package: RESC0402X40N; EDM-PN: *; Text2: *; Reutech PN: *; SAAB PN: *; DCE Part No: *
footprint RESC0402X40N (Chip Resistor, 0402, 2-Leads, Body 1.1x0.5mm, IPC Medium Density)
pins: 1, 2

## 1R_0603
designator R?, comment value 1R  Tol: 1%  Text1: 0603  (hidden comment: 1R_R0603_1%)
Resistor Chip SMD; Manufacturer: Various; Part Number: 1R 0603 1%; Watt: 100mW; Package: RESC0603X60N; EDM-PN: *; Text2: *; Reutech PN: *; SAAB PN: *; DCE Part No: *
footprint RESC0603X60N (Chip Resistor, 0603, 2-Leads, Body 1.6x0.8mm, IPC Medium Density)
pins: 1, 2

## 1R_0805
designator R?, comment value 1R  Tol: 1%  Text1: 0805  (hidden comment: 1R_R0805_1%)
Resistor Chip SMD; Manufacturer: Various; Part Number: 1R 0805 1%; Watt: 125mW; Package: RESC0805X65N; EDM-PN: *; Text2: *; Reutech PN: *; SAAB PN: *; DCE Part No: *
footprint RESC0805X65N (Chip Resistor, 0805, 2-Leads, Body 2.0x1.3mm, IPC Medium Density)
pins: 1, 2

## 1R_1206
designator R?, comment value 1R  Tol: 1%  Text1: 1206  (hidden comment: 1R_R1206_1%)
Resistor Chip SMD; Manufacturer: Various; Part Number: 1R 1206 1%; Watt: 250mW; Package: RESC1206X71N; EDM-PN: *; Text2: *; Reutech PN: *; SAAB PN: *; DCE Part No: *
footprint RESC1206X71N (Chip Resistor, 1206, 2-Leads, Body 3.2x1.6mm, IPC Medium Density)
pins: 1, 2

## 1R_2512
designator R?, comment value 1R  Watt: 1W  Text1: 2512  (hidden comment: 1R_R2512)
Resistor Chip SMD; Manufacturer: Various; Part Number: 1R 2512 1%; Tol: 1%; Package: RESC2512X71N; EDM-PN: *; Text2: *; Reutech PN: *; SAAB PN: *; DCE Part No: *
footprint RESC2512X71N (Chip Resistor, 2512, 2-Leads, Body 6.3x3.2mm, IPC Medium Density)
pins: 1, 2

## 1R_MMB-1W
designator R?  value 1R  Watt: 1W  Text1: MMB  (hidden comment: 1R_MMB-1W)
Resistor Melf SMD; Manufacturer: Vishay; Part Number: MMB 0207-50 1R 1%; Tol: 1%; Package: RES-MMB-0207; EDM-PN: *; Text2: *; Reutech PN: *; SAAB PN: *; DCE Part No: *
footprint RES-MMB-0207 (Resistor MMB 0207 5.8x2.2mm)
pins: 1, 2

## 2K1_0402
designator R?, comment value 2K1  Tol: 1%  Text1: 0402  (hidden comment: 2K1_R0402_1%)
Resistor Chip SMD; Manufacturer: Various; Part Number: 2K1 0402 1%; Watt: 63mW; Package: RESC0402X40N; EDM-PN: *; Text2: *; Reutech PN: *; SAAB PN: *; DCE Part No: *
footprint RESC0402X40N (Chip Resistor, 0402, 2-Leads, Body 1.1x0.5mm, IPC Medium Density)
pins: 1, 2

## 2K1_0603
designator R?, comment value 2K1  Tol: 1%  Text1: 0603  (hidden comment: 2K1_R0603_1%)
Resistor Chip SMD; Manufacturer: Various; Part Number: 2K1 0603 1%; Watt: 100mW; Package: RESC0603X60N; Text2: *; Reutech PN: *; SAAB PN: *; DCE Part No: *
footprint RESC0603X60N (Chip Resistor, 0603, 2-Leads, Body 1.6x0.8mm, IPC Medium Density)
pins: 1, 2

## 2K1_0603-0.5%
designator R?, comment value 2K1  Tol: 0.5%  Text1: 0603  (hidden comment: 2K1_R0603_0.5%)
Resistor Chip SMD; Manufacturer: Various; Part Number: 2K1 0603 0.5%; Watt: 100mW; Package: RESC0603X60N; Text2: *; Reutech PN: *; SAAB PN: *; DCE Part No: *
footprint RESC0603X60N (Chip Resistor, 0603, 2-Leads, Body 1.6x0.8mm, IPC Medium Density)
pins: 1, 2

## 2K1_0805
designator R?, comment value 2K1  Tol: 1%  Text1: 0805  (hidden comment: 2K1_R0805_1%)
Resistor Chip SMD; Manufacturer: Various; Part Number: 2K1 0805 1%; Watt: 125mW; Package: RESC0805X65N; EDM-PN: *; Text2: *; Reutech PN: *; SAAB PN: *; DCE Part No: *
footprint RESC0805X65N (Chip Resistor, 0805, 2-Leads, Body 2.0x1.3mm, IPC Medium Density)
pins: 1, 2

## 2K1_1206
designator R?, comment value 2K1  Tol: 1%  Text1: 1206  (hidden comment: 2K1_R1206_1%)
Resistor Chip SMD; Manufacturer: Various; Part Number: 2K1 1206 1%; Watt: 250mW; Package: RESC1206X71N; EDM-PN: *; Text2: *; Reutech PN: *; SAAB PN: *; DCE Part No: *
footprint RESC1206X71N (Chip Resistor, 1206, 2-Leads, Body 3.2x1.6mm, IPC Medium Density)
pins: 1, 2

## 2K2_0201
designator R?, comment value 2K2  Tol: 1%  Text1: 0201  (hidden comment: 2K2_R0201_1%)
Resistor Chip SMD; Manufacturer: Various; Part Number: 2K2 0201 1%; Watt: 31mW; Package: RESC0201X33N; EDM-PN: *; Text2: *; Reutech PN: *; SAAB PN: *; DCE Part No: *
footprint RESC0201X33N (Chip Resistor, 0201, 2-Leads, Body 0.6x0.3mm, IPC Medium Density)
pins: 1, 2

## 2K2_0402
designator R?, comment value 2K2  Tol: 1%  Text1: 0402  (hidden comment: 2K2_R0402_1%)
Resistor Chip SMD; Manufacturer: Various; Part Number: 2K2 0402 1%; DCE Part No: 7149; Watt: 63mW; EDM-PN: RES657; Package: RESC0402X40N; Text2: *; Reutech PN: *; SAAB PN: *
footprint RESC0402X40N (Chip Resistor, 0402, 2-Leads, Body 1.1x0.5mm, IPC Medium Density)
pins: 1, 2

## 2K2_0402-DNF
designator R?, comment value (2K2)  Tol: 1%  Text1: 0402  (hidden comment: 2K2_R0402_1%)
Resistor Chip SMD - Do not Fit; Manufacturer: Various; Part Number: DNF - 2K2 0402 1%; Watt: 63mW; Package: RESC0402X40N; EDM-PN: *; Text2: *; Reutech PN: *; SAAB PN: *; DCE Part No: *
footprint RESC0402X40N (Chip Resistor, 0402, 2-Leads, Body 1.1x0.5mm, IPC Medium Density)
pins: 1, 2

## 2K2_0402L
designator R?, comment value 2K2  Tol: 1%  Text1: 0402  (hidden comment: 2K2_R0402_1%)
Resistor Chip SMD; Manufacturer: Various; Part Number: 2K2 0402 1%; DCE Part No: 7149; Watt: 63mW; EDM-PN: RES657; Package: RESC0402X40L; Text2: *; Reutech PN: *; SAAB PN: *
footprint RESC0402X40L (Chip Resistor, 0402, 2-Leads, Body 1.1x0.5mm, IPC High Density)
pins: 1, 2

## 2K2_0603
designator R?, comment value 2K2  Tol: 1%  Text1: 0603  (hidden comment: 2K2_R0603_1%)
Resistor Chip SMD; Manufacturer: Various; Part Number: 2K2 0603 1%; Watt: 100mW; EDM-PN: RES232; Package: RESC0603X60N; Text2: *; Reutech PN: 5905-93-2201; SAAB PN: *; DCE Part No: *
footprint RESC0603X60N (Chip Resistor, 0603, 2-Leads, Body 1.6x0.8mm, IPC Medium Density)
pins: 1, 2

## 2K2_0603-DNF
designator R?, comment value (2K2)  Tol: 1%  Text1: 0603  (hidden comment: 2K2_R0603_1%-DNF)
Resistor Chip SMD - Do not Fit; Manufacturer: Various; Part Number: DNF-2K2 0603 1%; Watt: 100mW; EDM-PN: RES232; Package: RESC0603X60N; Text2: *; Reutech PN: 5905-93-2201; SAAB PN: *; DCE Part No: *
footprint RESC0603X60N (Chip Resistor, 0603, 2-Leads, Body 1.6x0.8mm, IPC Medium Density)
pins: 1, 2

## 2K2_0805
designator R?, comment value 2K2  Tol: 1%  Text1: 0805  (hidden comment: 2K2_R0805_1%)
Resistor Chip SMD; Manufacturer: Various; Part Number: 2K2 0805 1%; Watt: 125mW; EDM-PN: RES17; SAAB PN: 1ACF00192AEA; Package: RESC0805X65N; Text2: *; Reutech PN: *; DCE Part No: *
footprint RESC0805X65N (Chip Resistor, 0805, 2-Leads, Body 2.0x1.3mm, IPC Medium Density)
pins: 1, 2

## 2K2_0805-0.1%
designator R?, comment value 2K2  Tol: 0.1%  Text1: 0805  (hidden comment: 2K2_R0805_0.1%)
Resistor Chip SMD; Manufacturer: Various; Part Number: 2K2 0805 0.1%; Watt: 125mW; Package: RESC0805X65N; EDM-PN: *; Text2: *; Reutech PN: *; SAAB PN: *; DCE Part No: *
footprint RESC0805X65N (Chip Resistor, 0805, 2-Leads, Body 2.0x1.3mm, IPC Medium Density)
pins: 1, 2

## 2K2_1206
designator R?, comment value 2K2  Tol: 1%  Text1: 1206  (hidden comment: 2K2_R1206_1%)
Resistor Chip SMD; Manufacturer: Various; Part Number: 2K2 1206 1%; Watt: 250mW; Package: RESC1206X71N; EDM-PN: *; Text2: *; Reutech PN: 5905-97-2201; SAAB PN: *; DCE Part No: *
footprint RESC1206X71N (Chip Resistor, 1206, 2-Leads, Body 3.2x1.6mm, IPC Medium Density)
pins: 1, 2

## 2K2_2010
designator R?, comment value 2K2  Tol: 1%  Text1: 2010  (hidden comment: 2K2_R2010_1%)
Resistor Chip SMD; Manufacturer: Various; Part Number: 2K2 2010 1%; Watt: 750mW; Package: RESC2010X71N; EDM-PN: *; Text2: *; Reutech PN: *; SAAB PN: *; DCE Part No: *
footprint RESC2010X71N (Chip Resistor, 2010, 2-Leads, Body 5.0x2.5mm, IPC Medium Density)
pins: 1, 2

## 2K2_2512
designator R?, comment value 2K2  Watt: 1W  Text1: 2512  (hidden comment: 2K2_R2512_1%)
Resistor Chip SMD; Manufacturer: Various; Part Number: 2K2 2512 1%; Tol: 1%; Package: RESC2512X71N; EDM-PN: *; Text2: *; Reutech PN: *; SAAB PN: *; DCE Part No: *
footprint RESC2512X71N (Chip Resistor, 2512, 2-Leads, Body 6.3x3.2mm, IPC Medium Density)
pins: 1, 2

## 2K4_0402
designator R?, comment value 2K4  Tol: 1%  Text1: 0402  (hidden comment: 2K4_R0402_1%)
Resistor Chip SMD; Manufacturer: Various; Part Number: 2K4 0402 1%; Watt: 63mW; Package: RESC0402X40N; EDM-PN: *; Text2: *; Reutech PN: *; SAAB PN: *; DCE Part No: *
footprint RESC0402X40N (Chip Resistor, 0402, 2-Leads, Body 1.1x0.5mm, IPC Medium Density)
pins: 1, 2

## 2K4_0402L
designator R?, comment value 2K4  Tol: 1%  Text1: 0402  (hidden comment: 2K4_R0402_1%)
Resistor Chip SMD; Manufacturer: Various; Part Number: 2K4 0402 1%; Watt: 63mW; Package: RESC0402X40L; EDM-PN: *; Text2: *; Reutech PN: *; SAAB PN: *; DCE Part No: *
footprint RESC0402X40L (Chip Resistor, 0402, 2-Leads, Body 1.1x0.5mm, IPC High Density)
pins: 1, 2

## 2K4_0603
designator R?, comment value 2K4  Tol: 1%  Text1: 0603  (hidden comment: 2K4_R0603_1%)
Resistor Chip SMD; Manufacturer: Various; Part Number: 2K4 0603 1%; Watt: 100mW; Package: RESC0603X60N; EDM-PN: *; Text2: *; Reutech PN: 5905-93-2401; SAAB PN: *; DCE Part No: *
footprint RESC0603X60N (Chip Resistor, 0603, 2-Leads, Body 1.6x0.8mm, IPC Medium Density)
pins: 1, 2

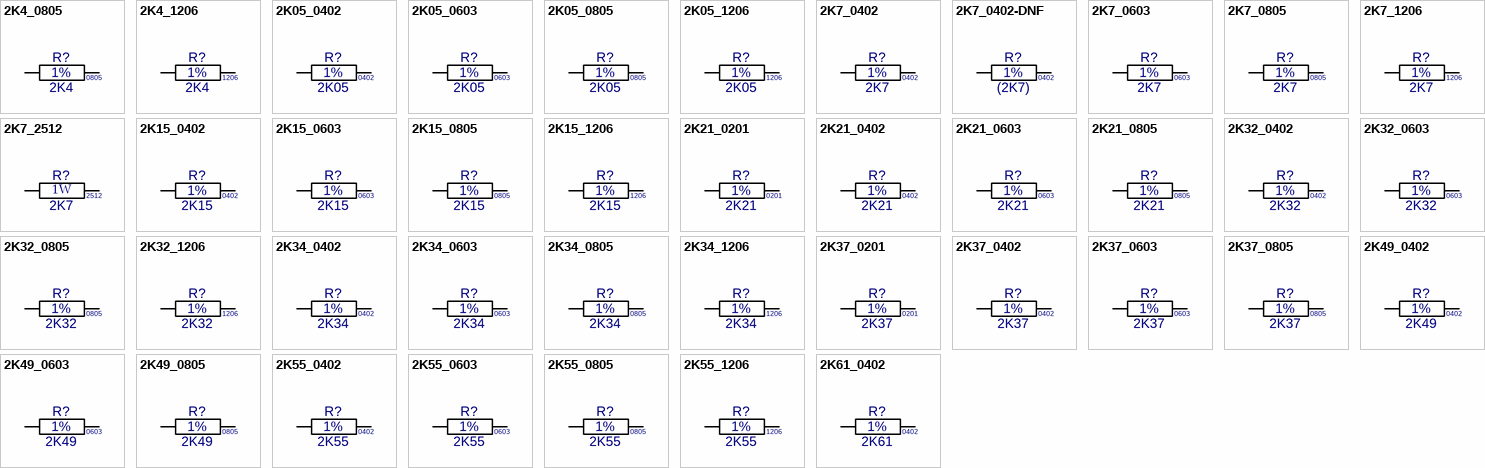
[diagram p9: symbols 2K4_0805 to 2K61_0402]

## 2K4_0805
designator R?, comment value 2K4  Tol: 1%  Text1: 0805  (hidden comment: 2K4_R0805_1%)
Resistor Chip SMD; Manufacturer: Various; Part Number: 2K4 0805 1%; Watt: 125mW; Package: RESC0805X65N; EDM-PN: *; Text2: *; Reutech PN: *; SAAB PN: *; DCE Part No: *
footprint RESC0805X65N (Chip Resistor, 0805, 2-Leads, Body 2.0x1.3mm, IPC Medium Density)
pins: 1, 2

## 2K4_1206
designator R?, comment value 2K4  Tol: 1%  Text1: 1206  (hidden comment: 2K4_R1206_1%)
Resistor Chip SMD; Manufacturer: Various; Part Number: 2K4 1206 1%; Watt: 250mW; Package: RESC1206X71N; EDM-PN: *; Text2: *; Reutech PN: *; SAAB PN: *; DCE Part No: *
footprint RESC1206X71N (Chip Resistor, 1206, 2-Leads, Body 3.2x1.6mm, IPC Medium Density)
pins: 1, 2

## 2K05_0402
designator R?, comment value 2K05  Tol: 1%  Text1: 0402  (hidden comment: 2K05_R0402_1%)
Resistor Chip SMD; Manufacturer: Various; Part Number: 2K05 0402 1%; Watt: 63mW; Package: RESC0402X40N; EDM-PN: *; Text2: *; Reutech PN: *; SAAB PN: *; DCE Part No: *
footprint RESC0402X40N (Chip Resistor, 0402, 2-Leads, Body 1.1x0.5mm, IPC Medium Density)
pins: 1, 2

## 2K05_0603
designator R?, comment value 2K05  Tol: 1%  Text1: 0603  (hidden comment: 2K05_R0603_1%)
Resistor Chip SMD; Manufacturer: Various; Part Number: 2K05 0603 1%; Watt: 100mW; Package: RESC0603X60N; EDM-PN: *; Text2: *; Reutech PN: *; SAAB PN: *; DCE Part No: *
footprint RESC0603X60N (Chip Resistor, 0603, 2-Leads, Body 1.6x0.8mm, IPC Medium Density)
pins: 1, 2

## 2K05_0805
designator R?, comment value 2K05  Tol: 1%  Text1: 0805  (hidden comment: 2K05_R0805_1%)
Resistor Chip SMD; Manufacturer: Various; Part Number: 2K05 0805 1%; Watt: 125mW; Package: RESC0805X65N; EDM-PN: *; Text2: *; Reutech PN: *; SAAB PN: *; DCE Part No: *
footprint RESC0805X65N (Chip Resistor, 0805, 2-Leads, Body 2.0x1.3mm, IPC Medium Density)
pins: 1, 2

## 2K05_1206
designator R?, comment value 2K05  Tol: 1%  Text1: 1206  (hidden comment: 2K05_R1206_1%)
Resistor Chip SMD; Manufacturer: Various; Part Number: 2K05 1206 1%; Watt: 250mW; Package: RESC1206X71N; EDM-PN: *; Text2: *; Reutech PN: *; SAAB PN: *; DCE Part No: *
footprint RESC1206X71N (Chip Resistor, 1206, 2-Leads, Body 3.2x1.6mm, IPC Medium Density)
pins: 1, 2

## 2K7_0402
designator R?, comment value 2K7  Tol: 1%  Text1: 0402  (hidden comment: 2K7_R0402_1%)
Resistor Chip SMD; Manufacturer: Various; Part Number: 2K7 0402 1%; Watt: 63mW; EDM-PN: RES1268; Package: RESC0402X40N; Text2: *; Reutech PN: *; SAAB PN: *; DCE Part No: *
footprint RESC0402X40N (Chip Resistor, 0402, 2-Leads, Body 1.1x0.5mm, IPC Medium Density)
pins: 1, 2

## 2K7_0402-DNF
designator R?, comment value (2K7)  Tol: 1%  Text1: 0402  (hidden comment: 2K7_R0402_1%-DNF)
Resistor Chip SMD - Do not Fit; Manufacturer: Various; Part Number: DNF - 2K7 0402 1%; Watt: 63mW; EDM-PN: RES1268; Package: RESC0402X40N; Text2: *; Reutech PN: *; SAAB PN: *; DCE Part No: *
footprint RESC0402X40N (Chip Resistor, 0402, 2-Leads, Body 1.1x0.5mm, IPC Medium Density)
pins: 1, 2

## 2K7_0603
designator R?, comment value 2K7  Tol: 1%  Text1: 0603  (hidden comment: 2K7_R0603_1%)
Resistor Chip SMD; Manufacturer: Various; Part Number: 2K7 0603 1%; Watt: 100mW; EDM-PN: RES233; Package: RESC0603X60N; Text2: *; Reutech PN: *; SAAB PN: *; DCE Part No: *
footprint RESC0603X60N (Chip Resistor, 0603, 2-Leads, Body 1.6x0.8mm, IPC Medium Density)
pins: 1, 2

## 2K7_0805
designator R?, comment value 2K7  Tol: 1%  Text1: 0805  (hidden comment: 2K7_R0805_1%)
Resistor Chip SMD; Manufacturer: Various; Part Number: 2K7 0805 1%; Watt: 125mW; EDM-PN: RES51; SAAB PN: 1ACF00193AEA; Package: RESC0805X65N; Text2: *; Reutech PN: *; DCE Part No: *
footprint RESC0805X65N (Chip Resistor, 0805, 2-Leads, Body 2.0x1.3mm, IPC Medium Density)
pins: 1, 2

## 2K7_1206
designator R?, comment value 2K7  Tol: 1%  Text1: 1206  (hidden comment: 2K7_R1206_1%)
Resistor Chip SMD; Manufacturer: Various; Part Number: 2K7 1206 1%; Watt: 250mW; Package: RESC1206X71N; EDM-PN: *; Text2: *; Reutech PN: *; SAAB PN: *; DCE Part No: *
footprint RESC1206X71N (Chip Resistor, 1206, 2-Leads, Body 3.2x1.6mm, IPC Medium Density)
pins: 1, 2

## 2K7_2512
designator R?, comment value 2K7  Watt: 1W  Text1: 2512  (hidden comment: 2K7_R2512)
Resistor Chip SMD; Manufacturer: Various; Part Number: 2K7 2512 1%; Tol: 1%; Reutech PN: 5905-CR-0042; Package: RESC2512X71N; EDM-PN: *; Text2: *; SAAB PN: *; DCE Part No: *
footprint RESC2512X71N (Chip Resistor, 2512, 2-Leads, Body 6.3x3.2mm, IPC Medium Density)
pins: 1, 2

## 2K15_0402
designator R?, comment value 2K15  Tol: 1%  Text1: 0402  (hidden comment: 2K15_R0402_1%)
Resistor Chip SMD; Manufacturer: Various; Part Number: 2K15 0402 1%; Watt: 63mW; Package: RESC0402X40N; EDM-PN: *; Text2: *; Reutech PN: *; SAAB PN: *; DCE Part No: *
footprint RESC0402X40N (Chip Resistor, 0402, 2-Leads, Body 1.1x0.5mm, IPC Medium Density)
pins: 1, 2

## 2K15_0603
designator R?, comment value 2K15  Tol: 1%  Text1: 0603  (hidden comment: 2K15_R0603_1%)
Resistor Chip SMD; Manufacturer: Various; Part Number: 2K15 0603 1%; Watt: 100mW; Package: RESC0603X60N; Text2: *; Reutech PN: *; SAAB PN: *; DCE Part No: *
footprint RESC0603X60N (Chip Resistor, 0603, 2-Leads, Body 1.6x0.8mm, IPC Medium Density)
pins: 1, 2

## 2K15_0805
designator R?, comment value 2K15  Tol: 1%  Text1: 0805  (hidden comment: 2K15_R0805_1%)
Resistor Chip SMD; Manufacturer: Various; Part Number: 2K15 0805 1%; Watt: 125mW; Package: RESC0805X65N; EDM-PN: *; Text2: *; Reutech PN: *; SAAB PN: *; DCE Part No: *
footprint RESC0805X65N (Chip Resistor, 0805, 2-Leads, Body 2.0x1.3mm, IPC Medium Density)
pins: 1, 2

## 2K15_1206
designator R?, comment value 2K15  Tol: 1%  Text1: 1206  (hidden comment: 2K15_R1206_1%)
Resistor Chip SMD; Manufacturer: Various; Part Number: 2K15 1206 1%; Watt: 250mW; Package: RESC1206X71N; EDM-PN: *; Text2: *; Reutech PN: *; SAAB PN: *; DCE Part No: *
footprint RESC1206X71N (Chip Resistor, 1206, 2-Leads, Body 3.2x1.6mm, IPC Medium Density)
pins: 1, 2

## 2K21_0201
designator R?, comment value 2K21  Tol: 1%  Text1: 0201  (hidden comment: 2K21_R0201_1%)
Resistor Chip SMD; Manufacturer: Various; Part Number: 2K21 0201 1%; Watt: 31mW; Package: RESC0201X33N; EDM-PN: *; Text2: *; Reutech PN: *; SAAB PN: *; DCE Part No: *
footprint RESC0201X33N (Chip Resistor, 0201, 2-Leads, Body 0.6x0.3mm, IPC Medium Density)
pins: 1, 2

## 2K21_0402
designator R?, comment value 2K21  Tol: 1%  Text1: 0402  (hidden comment: 2K21_R0402_1%)
Resistor Chip SMD; Manufacturer: Various; Part Number: 2K21 0402 1%; Watt: 63mW; Package: RESC0402X40N; EDM-PN: *; Text2: *; Reutech PN: *; SAAB PN: *; DCE Part No: *
footprint RESC0402X40N (Chip Resistor, 0402, 2-Leads, Body 1.1x0.5mm, IPC Medium Density)
pins: 1, 2

## 2K21_0603
designator R?, comment value 2K21  Tol: 1%  Text1: 0603  (hidden comment: 2K21_R0603_1%)
Resistor Chip SMD; Manufacturer: Various; Part Number: 2K21 0603 1%; Watt: 100mW; Package: RESC0603X60N; EDM-PN: *; Text2: *; Reutech PN: *; SAAB PN: *; DCE Part No: *
footprint RESC0603X60N (Chip Resistor, 0603, 2-Leads, Body 1.6x0.8mm, IPC Medium Density)
pins: 1, 2

## 2K21_0805
designator R?, comment value 2K21  Tol: 1%  Text1: 0805  (hidden comment: 2K21_R0805_1%)
Resistor Chip SMD; Manufacturer: Various; Part Number: 2K21 0805 1%; Watt: 125mW; Package: RESC0805X65N; EDM-PN: *; Text2: *; Reutech PN: *; SAAB PN: *; DCE Part No: *
footprint RESC0805X65N (Chip Resistor, 0805, 2-Leads, Body 2.0x1.3mm, IPC Medium Density)
pins: 1, 2

## 2K32_0402
designator R?, comment value 2K32  Tol: 1%  Text1: 0402  (hidden comment: 2K32_R0402_1%)
Resistor Chip SMD; Manufacturer: Various; Part Number: 2K32 0402 1%; Watt: 63mW; Package: RESC0402X40N; EDM-PN: *; Text2: *; Reutech PN: *; SAAB PN: *; DCE Part No: *
footprint RESC0402X40N (Chip Resistor, 0402, 2-Leads, Body 1.1x0.5mm, IPC Medium Density)
pins: 1, 2

## 2K32_0603
designator R?, comment value 2K32  Tol: 1%  Text1: 0603  (hidden comment: 2K32_R0603_1%)
Resistor Chip SMD; Manufacturer: Various; Part Number: 2K32 0603 1%; Watt: 100mW; Package: RESC0603X60N; EDM-PN: *; Text2: *; Reutech PN: *; SAAB PN: *; DCE Part No: *
footprint RESC0603X60N (Chip Resistor, 0603, 2-Leads, Body 1.6x0.8mm, IPC Medium Density)
pins: 1, 2

## 2K32_0805
designator R?, comment value 2K32  Tol: 1%  Text1: 0805  (hidden comment: 2K32_R0805_1%)
Resistor Chip SMD; Manufacturer: Various; Part Number: 2K32 0805 1%; Watt: 125mW; Package: RESC0805X65N; EDM-PN: *; Text2: *; Reutech PN: *; SAAB PN: *; DCE Part No: *
footprint RESC0805X65N (Chip Resistor, 0805, 2-Leads, Body 2.0x1.3mm, IPC Medium Density)
pins: 1, 2

## 2K32_1206
designator R?, comment value 2K32  Tol: 1%  Text1: 1206  (hidden comment: 2K32_R1206_1%)
Resistor Chip SMD; Manufacturer: Various; Part Number: 2K32 1206 1%; Watt: 250mW; Package: RESC1206X71N; EDM-PN: *; Text2: *; Reutech PN: *; SAAB PN: *; DCE Part No: *
footprint RESC1206X71N (Chip Resistor, 1206, 2-Leads, Body 3.2x1.6mm, IPC Medium Density)
pins: 1, 2

## 2K34_0402
designator R?, comment value 2K34  Tol: 1%  Text1: 0402  (hidden comment: 2K34_R0402_1%)
Resistor Chip SMD; Manufacturer: Various; Part Number: 2K34 0402 1%; Watt: 63mW; Package: RESC0402X40N; EDM-PN: *; Text2: *; Reutech PN: *; SAAB PN: *; DCE Part No: *
footprint RESC0402X40N (Chip Resistor, 0402, 2-Leads, Body 1.1x0.5mm, IPC Medium Density)
pins: 1, 2

## 2K34_0603
designator R?, comment value 2K34  Tol: 1%  Text1: 0603  (hidden comment: 2K34_R0603_1%)
Resistor Chip SMD; Manufacturer: Various; Part Number: 2K34 0603 1%; Watt: 100mW; Package: RESC0603X60N; EDM-PN: *; Text2: *; Reutech PN: *; SAAB PN: *; DCE Part No: *
footprint RESC0603X60N (Chip Resistor, 0603, 2-Leads, Body 1.6x0.8mm, IPC Medium Density)
pins: 1, 2

## 2K34_0805
designator R?, comment value 2K34  Tol: 1%  Text1: 0805  (hidden comment: 2K34_R0805_1%)
Resistor Chip SMD; Manufacturer: Various; Part Number: 2K34 0805 1%; Watt: 125mW; Package: RESC0805X65N; EDM-PN: *; Text2: *; Reutech PN: *; SAAB PN: *; DCE Part No: *
footprint RESC0805X65N (Chip Resistor, 0805, 2-Leads, Body 2.0x1.3mm, IPC Medium Density)
pins: 1, 2

## 2K34_1206
designator R?, comment value 2K34  Tol: 1%  Text1: 1206  (hidden comment: 2K34_R1206_1%)
Resistor Chip SMD; Manufacturer: Various; Part Number: 2K34 1206 1%; Watt: 250mW; Package: RESC1206X71N; EDM-PN: *; Text2: *; Reutech PN: *; SAAB PN: *; DCE Part No: *
footprint RESC1206X71N (Chip Resistor, 1206, 2-Leads, Body 3.2x1.6mm, IPC Medium Density)
pins: 1, 2

## 2K37_0201
designator R?, comment value 2K37  Tol: 1%  Text1: 0201  (hidden comment: 2K37_R0201_1%)
Resistor Chip SMD; Manufacturer: Various; Part Number: 2K37 0201 1%; Watt: 31mW; Package: RESC0201X33N; EDM-PN: *; Text2: *; Reutech PN: *; SAAB PN: *; DCE Part No: *
footprint RESC0201X33N (Chip Resistor, 0201, 2-Leads, Body 0.6x0.3mm, IPC Medium Density)
pins: 1, 2

## 2K37_0402
designator R?, comment value 2K37  Tol: 1%  Text1: 0402  (hidden comment: 2K37_R0402_1%)
Resistor Chip SMD; Manufacturer: Various; Part Number: 2K37 0402 1%; Watt: 63mW; Package: RESC0402X40N; EDM-PN: *; Text2: *; Reutech PN: *; SAAB PN: *; DCE Part No: *
footprint RESC0402X40N (Chip Resistor, 0402, 2-Leads, Body 1.1x0.5mm, IPC Medium Density)
pins: 1, 2

## 2K37_0603
designator R?, comment value 2K37  Tol: 1%  Text1: 0603  (hidden comment: 2K37_R0603_1%)
Resistor Chip SMD; Manufacturer: Various; Part Number: 2K37 0603 1%; Watt: 100mW; Package: RESC0603X60N; EDM-PN: *; Text2: *; Reutech PN: *; SAAB PN: *; DCE Part No: *
footprint RESC0603X60N (Chip Resistor, 0603, 2-Leads, Body 1.6x0.8mm, IPC Medium Density)
pins: 1, 2

## 2K37_0805
designator R?, comment value 2K37  Tol: 1%  Text1: 0805  (hidden comment: 2K37_R0805_1%)
Resistor Chip SMD; Manufacturer: Various; Part Number: 2K37 0805 1%; Watt: 125mW; Package: RESC0805X65N; EDM-PN: *; Text2: *; Reutech PN: *; SAAB PN: *; DCE Part No: *
footprint RESC0805X65N (Chip Resistor, 0805, 2-Leads, Body 2.0x1.3mm, IPC Medium Density)
pins: 1, 2

## 2K49_0402
designator R?, comment value 2K49  Tol: 1%  Text1: 0402  (hidden comment: 2K49_R0402_1%)
Resistor Chip SMD; Manufacturer: Various; Part Number: 2K49 0402 1%; Watt: 63mW; Package: RESC0402X40N; EDM-PN: *; Text2: *; Reutech PN: *; SAAB PN: *; DCE Part No: *
footprint RESC0402X40N (Chip Resistor, 0402, 2-Leads, Body 1.1x0.5mm, IPC Medium Density)
pins: 1, 2

## 2K49_0603
designator R?, comment value 2K49  Tol: 1%  Text1: 0603  (hidden comment: 2K49_R0603_1%)
Resistor Chip SMD; Manufacturer: Various; Part Number: 2K49 0603 1%; Watt: 100mW; Package: RESC0603X60N; EDM-PN: *; Text2: *; Reutech PN: *; SAAB PN: *; DCE Part No: *
footprint RESC0603X60N (Chip Resistor, 0603, 2-Leads, Body 1.6x0.8mm, IPC Medium Density)
pins: 1, 2

## 2K49_0805
designator R?, comment value 2K49  Tol: 1%  Text1: 0805  (hidden comment: 2K49_R0805_1%)
Resistor Chip SMD; Manufacturer: Various; Part Number: 2K49 0805 1%; Watt: 125mW; Package: RESC0805X65N; EDM-PN: *; Text2: *; Reutech PN: *; SAAB PN: *; DCE Part No: *
footprint RESC0805X65N (Chip Resistor, 0805, 2-Leads, Body 2.0x1.3mm, IPC Medium Density)
pins: 1, 2

## 2K55_0402
designator R?, comment value 2K55  Tol: 1%  Text1: 0402  (hidden comment: 2K55_R0402_1%)
Resistor Chip SMD; Manufacturer: Various; Part Number: 2K55 0402 1%; Watt: 63mW; Package: RESC0402X40N; EDM-PN: *; Text2: *; Reutech PN: *; SAAB PN: *; DCE Part No: *
footprint RESC0402X40N (Chip Resistor, 0402, 2-Leads, Body 1.1x0.5mm, IPC Medium Density)
pins: 1, 2

## 2K55_0603
designator R?, comment value 2K55  Tol: 1%  Text1: 0603  (hidden comment: 2K55_R0603_1%)
Resistor Chip SMD; Manufacturer: Various; Part Number: 2K55 0603 1%; Watt: 100mW; Package: RESC0603X60N; EDM-PN: *; Text2: *; Reutech PN: *; SAAB PN: *; DCE Part No: *
footprint RESC0603X60N (Chip Resistor, 0603, 2-Leads, Body 1.6x0.8mm, IPC Medium Density)
pins: 1, 2

## 2K55_0805
designator R?, comment value 2K55  Tol: 1%  Text1: 0805  (hidden comment: 2K55_R0805_1%)
Resistor Chip SMD; Manufacturer: Various; Part Number: 2K55 0805 1%; Watt: 125mW; Package: RESC0805X65N; EDM-PN: *; Text2: *; Reutech PN: *; SAAB PN: *; DCE Part No: *
footprint RESC0805X65N (Chip Resistor, 0805, 2-Leads, Body 2.0x1.3mm, IPC Medium Density)
pins: 1, 2

## 2K55_1206
designator R?, comment value 2K55  Tol: 1%  Text1: 1206  (hidden comment: 2K55_R1206_1%)
Resistor Chip SMD; Manufacturer: Various; Part Number: 2K55 1206 1%; Watt: 250mW; Package: RESC1206X71N; EDM-PN: *; Text2: *; Reutech PN: *; SAAB PN: *; DCE Part No: *
footprint RESC1206X71N (Chip Resistor, 1206, 2-Leads, Body 3.2x1.6mm, IPC Medium Density)
pins: 1, 2

## 2K61_0402
designator R?, comment value 2K61  Tol: 1%  Text1: 0402  (hidden comment: 2K61_R0402_1%)
Resistor Chip SMD; Manufacturer: Various; Part Number: 2K61 0402 1%; Watt: 63mW; Package: RESC0402X40N; EDM-PN: *; Text2: *; Reutech PN: *; SAAB PN: *; DCE Part No: *
footprint RESC0402X40N (Chip Resistor, 0402, 2-Leads, Body 1.1x0.5mm, IPC Medium Density)
pins: 1, 2

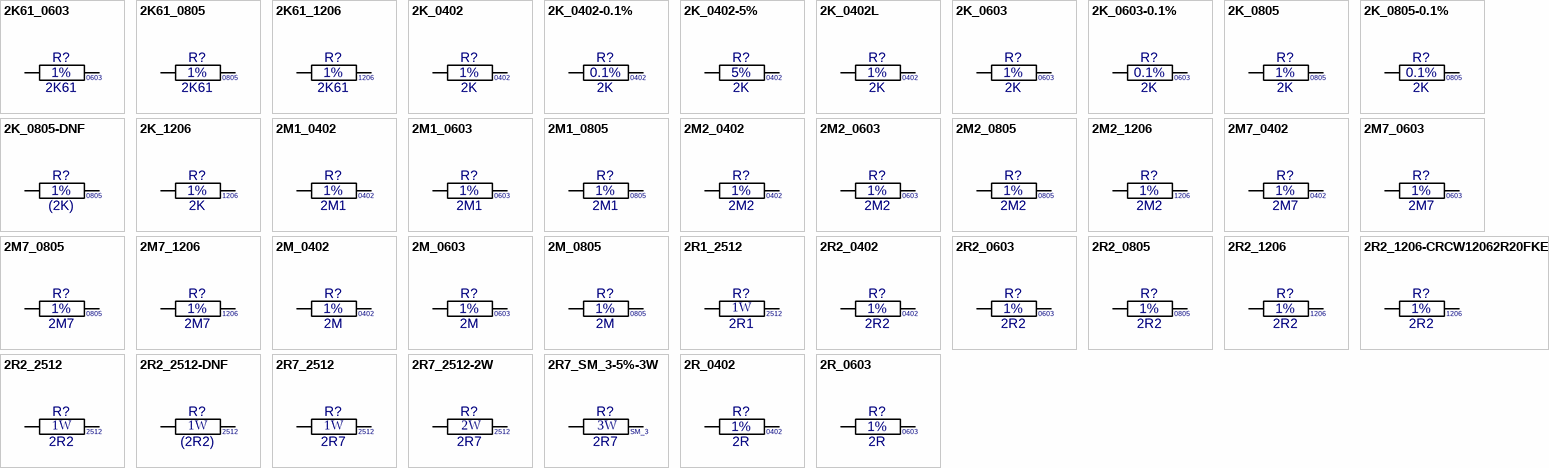
[diagram p10: symbols 2K61_0603 to 2R_0603]

## 2K61_0603
designator R?, comment value 2K61  Tol: 1%  Text1: 0603  (hidden comment: 2K61_R0603_1%)
Resistor Chip SMD; Manufacturer: Various; Part Number: 2K61 0603 1%; Watt: 100mW; Package: RESC0603X60N; EDM-PN: *; Text2: *; Reutech PN: *; SAAB PN: *; DCE Part No: *
footprint RESC0603X60N (Chip Resistor, 0603, 2-Leads, Body 1.6x0.8mm, IPC Medium Density)
pins: 1, 2